# Altium integrated library Altium_WCAP-CSGP (rev21d).IntLib: 945 symbols (part 1 of 17)
Pins are listed as number, name and electrical type; pins without a type are passive.

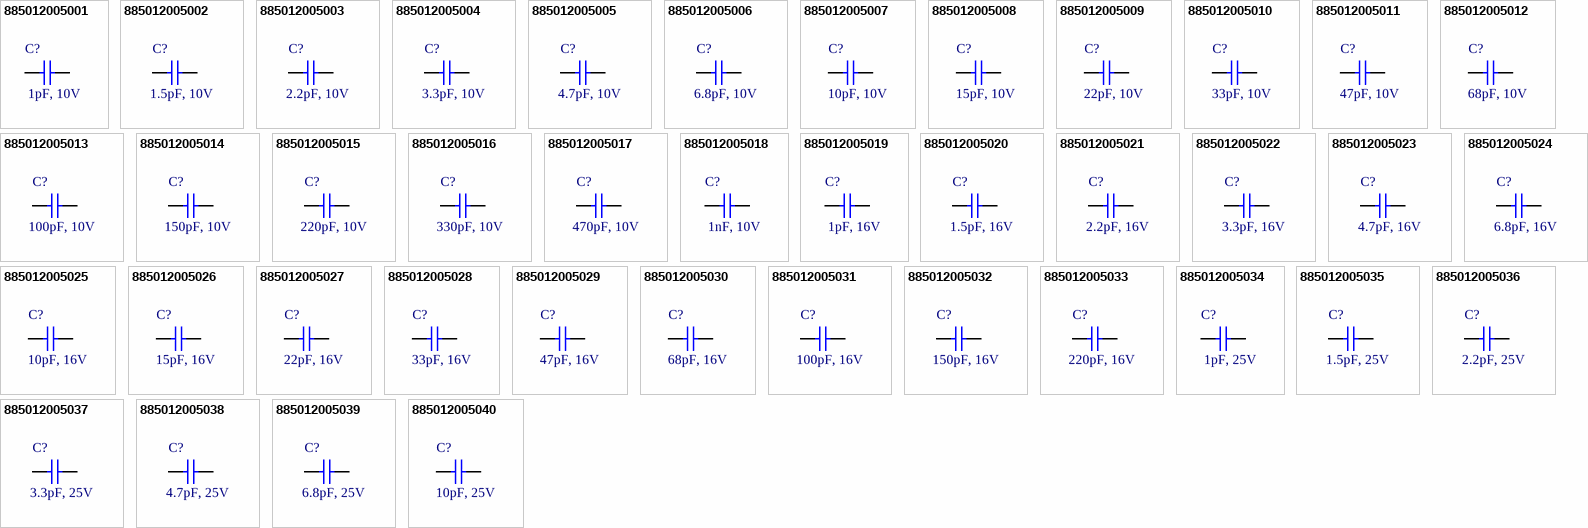
[diagram p0: symbols 885012005001 to 885012005040]

## 885012005001
designator C?, comment 1pF, 10V
WCAP-CSGP Multilayer Ceramic Chip Capacitor, General Purpose, size 0402, NP0, 1pF, 10V; Manufacturer Part Number: 885012005001; Manufacturer: Wurth Elektronik; Rated Voltage: 10VDC; Isolation Resistance  min.: 10GOhm; Capacitance Tolerance: +/-0.5pF; Technical Reference: NP004021R0D010DFCT10000; Q-Factor min.: 400+20C; ComponentLink1Description: Manufacturer; ComponentLink1URL: http://www.we-online.de; ComponentLink2Description: Datasheet; ComponentLink2URL: https://www.we-online.com/catalog/datasheet/885012005001.pdf; Operating Temperature: -55 to +125degC; Packaging: Tape and Reel; Published Date: April 2021; Ceramic Type: NP0; Dissipation Factor max.: -; Height: 0.5mm; Mounting Technology: SMT; Size: 0402; Capacitance: 1pF
footprint WCAP-CSGP_0402_H=0.5mm
pins: 1, 2

## 885012005002
designator C?, comment 1.5pF, 10V
WCAP-CSGP Multilayer Ceramic Chip Capacitor, General Purpose, size 0402, NP0, 1.5pF, 10V; Manufacturer Part Number: 885012005002; Manufacturer: Wurth Elektronik; Rated Voltage: 10VDC; Isolation Resistance  min.: 10GOhm; Capacitance Tolerance: +/-0.5pF; Technical Reference: NP004021R5D010DFCT10000; Q-Factor min.: 400+20C; ComponentLink1Description: Manufacturer; ComponentLink1URL: http://www.we-online.de; ComponentLink2Description: Datasheet; ComponentLink2URL: https://www.we-online.com/catalog/datasheet/885012005002.pdf; Operating Temperature: -55 to +125degC; Packaging: Tape and Reel; Published Date: April 2021; Ceramic Type: NP0; Dissipation Factor max.: -; Height: 0.5mm; Mounting Technology: SMT; Size: 0402; Capacitance: 1.5pF
footprint WCAP-CSGP_0402_H=0.5mm
pins: 1, 2

## 885012005003
designator C?, comment 2.2pF, 10V
WCAP-CSGP Multilayer Ceramic Chip Capacitor, General Purpose, size 0402, NP0, 2.2pF, 10V; Manufacturer Part Number: 885012005003; Manufacturer: Wurth Elektronik; Rated Voltage: 10VDC; Isolation Resistance  min.: 10GOhm; Capacitance Tolerance: +/-0.5pF; Technical Reference: NP004022R2D010DFCT10000; Q-Factor min.: 400+20C; ComponentLink1Description: Manufacturer; ComponentLink1URL: http://www.we-online.de; ComponentLink2Description: Datasheet; ComponentLink2URL: https://www.we-online.com/catalog/datasheet/885012005003.pdf; Operating Temperature: -55 to +125degC; Packaging: Tape and Reel; Published Date: April 2021; Ceramic Type: NP0; Dissipation Factor max.: -; Height: 0.5mm; Mounting Technology: SMT; Size: 0402; Capacitance: 2.2pF
footprint WCAP-CSGP_0402_H=0.5mm
pins: 1, 2

## 885012005004
designator C?, comment 3.3pF, 10V
WCAP-CSGP Multilayer Ceramic Chip Capacitor, General Purpose, size 0402, NP0, 3.3pF, 10V; Manufacturer Part Number: 885012005004; Manufacturer: Wurth Elektronik; Rated Voltage: 10VDC; Isolation Resistance  min.: 10GOhm; Capacitance Tolerance: +/-0.5pF; Technical Reference: NP004023R3D010DFCT10000; Q-Factor min.: 400+20C; ComponentLink1Description: Manufacturer; ComponentLink1URL: http://www.we-online.de; ComponentLink2Description: Datasheet; ComponentLink2URL: https://www.we-online.com/catalog/datasheet/885012005004.pdf; Operating Temperature: -55 to +125degC; Packaging: Tape and Reel; Published Date: April 2021; Ceramic Type: NP0; Dissipation Factor max.: -; Height: 0.5mm; Mounting Technology: SMT; Size: 0402; Capacitance: 3.3pF
footprint WCAP-CSGP_0402_H=0.5mm
pins: 1, 2

## 885012005005
designator C?, comment 4.7pF, 10V
WCAP-CSGP Multilayer Ceramic Chip Capacitor, General Purpose, size 0402, NP0, 4.7pF, 10V; Manufacturer Part Number: 885012005005; Manufacturer: Wurth Elektronik; Rated Voltage: 10VDC; Isolation Resistance  min.: 10GOhm; Capacitance Tolerance: +/-0.5pF; Technical Reference: NP004024R7D010DFCT10000; Q-Factor min.: 400+20C; ComponentLink1Description: Manufacturer; ComponentLink1URL: http://www.we-online.de; ComponentLink2Description: Datasheet; ComponentLink2URL: https://www.we-online.com/catalog/datasheet/885012005005.pdf; Operating Temperature: -55 to +125degC; Packaging: Tape and Reel; Published Date: April 2021; Ceramic Type: NP0; Dissipation Factor max.: -; Height: 0.5mm; Mounting Technology: SMT; Size: 0402; Capacitance: 4.7pF
footprint WCAP-CSGP_0402_H=0.5mm
pins: 1, 2

## 885012005006
designator C?, comment 6.8pF, 10V
WCAP-CSGP Multilayer Ceramic Chip Capacitor, General Purpose, size 0402, NP0, 6.8pF, 10V; Manufacturer Part Number: 885012005006; Manufacturer: Wurth Elektronik; Rated Voltage: 10VDC; Isolation Resistance  min.: 10GOhm; Capacitance Tolerance: +/-0.5pF; Technical Reference: NP004026R8D010DFCT10000; Q-Factor min.: 400+20C; ComponentLink1Description: Manufacturer; ComponentLink1URL: http://www.we-online.de; ComponentLink2Description: Datasheet; ComponentLink2URL: https://www.we-online.com/catalog/datasheet/885012005006.pdf; Operating Temperature: -55 to +125degC; Packaging: Tape and Reel; Published Date: April 2021; Ceramic Type: NP0; Dissipation Factor max.: -; Height: 0.5mm; Mounting Technology: SMT; Size: 0402; Capacitance: 6.8pF
footprint WCAP-CSGP_0402_H=0.5mm
pins: 1, 2

## 885012005007
designator C?, comment 10pF, 10V
WCAP-CSGP Multilayer Ceramic Chip Capacitor, General Purpose, size 0402, NP0, 10pF, 10V; Manufacturer Part Number: 885012005007; Manufacturer: Wurth Elektronik; Rated Voltage: 10VDC; Isolation Resistance  min.: 10GOhm; Capacitance Tolerance: +/-5%; Technical Reference: NP00402100J010DFCT10000; Q-Factor min.: 400+20C; ComponentLink1Description: Manufacturer; ComponentLink1URL: http://www.we-online.de; ComponentLink2Description: Datasheet; ComponentLink2URL: https://www.we-online.com/catalog/datasheet/885012005007.pdf; Operating Temperature: -55 to +125degC; Packaging: Tape and Reel; Published Date: April 2021; Ceramic Type: NP0; Dissipation Factor max.: -; Height: 0.5mm; Mounting Technology: SMT; Size: 0402; Capacitance: 10pF
footprint WCAP-CSGP_0402_H=0.5mm
pins: 1, 2

## 885012005008
designator C?, comment 15pF, 10V
WCAP-CSGP Multilayer Ceramic Chip Capacitor, General Purpose, size 0402, NP0, 15pF, 10V; Manufacturer Part Number: 885012005008; Manufacturer: Wurth Elektronik; Rated Voltage: 10VDC; Isolation Resistance  min.: 10GOhm; Capacitance Tolerance: +/-5%; Technical Reference: NP00402150J010DFCT10000; Q-Factor min.: 400+20C; ComponentLink1Description: Manufacturer; ComponentLink1URL: http://www.we-online.de; ComponentLink2Description: Datasheet; ComponentLink2URL: https://www.we-online.com/catalog/datasheet/885012005008.pdf; Operating Temperature: -55 to +125degC; Packaging: Tape and Reel; Published Date: April 2021; Ceramic Type: NP0; Dissipation Factor max.: -; Height: 0.5mm; Mounting Technology: SMT; Size: 0402; Capacitance: 15pF
footprint WCAP-CSGP_0402_H=0.5mm
pins: 1, 2

## 885012005009
designator C?, comment 22pF, 10V
WCAP-CSGP Multilayer Ceramic Chip Capacitor, General Purpose, size 0402, NP0, 22pF, 10V; Manufacturer Part Number: 885012005009; Manufacturer: Wurth Elektronik; Rated Voltage: 10VDC; Isolation Resistance  min.: 10GOhm; Capacitance Tolerance: +/-5%; Technical Reference: NP00402220J010DFCT10000; Q-Factor min.: 400+20C; ComponentLink1Description: Manufacturer; ComponentLink1URL: http://www.we-online.de; ComponentLink2Description: Datasheet; ComponentLink2URL: https://www.we-online.com/catalog/datasheet/885012005009.pdf; Operating Temperature: -55 to +125degC; Packaging: Tape and Reel; Published Date: April 2021; Ceramic Type: NP0; Dissipation Factor max.: -; Height: 0.5mm; Mounting Technology: SMT; Size: 0402; Capacitance: 22pF
footprint WCAP-CSGP_0402_H=0.5mm
pins: 1, 2

## 885012005010
designator C?, comment 33pF, 10V
WCAP-CSGP Multilayer Ceramic Chip Capacitor, General Purpose, size 0402, NP0, 33pF, 10V; Manufacturer Part Number: 885012005010; Manufacturer: Wurth Elektronik; Rated Voltage: 10VDC; Isolation Resistance  min.: 10GOhm; Capacitance Tolerance: +/-5%; Technical Reference: NP00402330J010DFCT10000; Q-Factor min.: 1000; ComponentLink1Description: Manufacturer; ComponentLink1URL: http://www.we-online.de; ComponentLink2Description: Datasheet; ComponentLink2URL: https://www.we-online.com/catalog/datasheet/885012005010.pdf; Operating Temperature: -55 to +125degC; Packaging: Tape and Reel; Published Date: April 2021; Ceramic Type: NP0; Dissipation Factor max.: -; Height: 0.5mm; Mounting Technology: SMT; Size: 0402; Capacitance: 33pF
footprint WCAP-CSGP_0402_H=0.5mm
pins: 1, 2

## 885012005011
designator C?, comment 47pF, 10V
WCAP-CSGP Multilayer Ceramic Chip Capacitor, General Purpose, size 0402, NP0, 47pF, 10V; Manufacturer Part Number: 885012005011; Manufacturer: Wurth Elektronik; Rated Voltage: 10VDC; Isolation Resistance  min.: 10GOhm; Capacitance Tolerance: +/-5%; Technical Reference: NP00402470J010DFCT10000; Q-Factor min.: 1000; ComponentLink1Description: Manufacturer; ComponentLink1URL: http://www.we-online.de; ComponentLink2Description: Datasheet; ComponentLink2URL: https://www.we-online.com/catalog/datasheet/885012005011.pdf; Operating Temperature: -55 to +125degC; Packaging: Tape and Reel; Published Date: April 2021; Ceramic Type: NP0; Dissipation Factor max.: -; Height: 0.5mm; Mounting Technology: SMT; Size: 0402; Capacitance: 47pF
footprint WCAP-CSGP_0402_H=0.5mm
pins: 1, 2

## 885012005012
designator C?, comment 68pF, 10V
WCAP-CSGP Multilayer Ceramic Chip Capacitor, General Purpose, size 0402, NP0, 68pF, 10V; Manufacturer Part Number: 885012005012; Manufacturer: Wurth Elektronik; Rated Voltage: 10VDC; Isolation Resistance  min.: 10GOhm; Capacitance Tolerance: +/-5%; Technical Reference: NP00402680J010DFCT10000; Q-Factor min.: 1000; ComponentLink1Description: Manufacturer; ComponentLink1URL: http://www.we-online.de; ComponentLink2Description: Datasheet; ComponentLink2URL: https://www.we-online.com/catalog/datasheet/885012005012.pdf; Operating Temperature: -55 to +125degC; Packaging: Tape and Reel; Published Date: April 2021; Ceramic Type: NP0; Dissipation Factor max.: -; Height: 0.5mm; Mounting Technology: SMT; Size: 0402; Capacitance: 68pF
footprint WCAP-CSGP_0402_H=0.5mm
pins: 1, 2

## 885012005013
designator C?, comment 100pF, 10V
WCAP-CSGP Multilayer Ceramic Chip Capacitor, General Purpose, size 0402, NP0, 100pF, 10V; Manufacturer Part Number: 885012005013; Manufacturer: Wurth Elektronik; Rated Voltage: 10VDC; Isolation Resistance  min.: 10GOhm; Capacitance Tolerance: +/-5%; Technical Reference: NP00402101J010DFCT10000; Q-Factor min.: 1000; ComponentLink1Description: Manufacturer; ComponentLink1URL: http://www.we-online.de; ComponentLink2Description: Datasheet; ComponentLink2URL: https://www.we-online.com/catalog/datasheet/885012005013.pdf; Operating Temperature: -55 to +125degC; Packaging: Tape and Reel; Published Date: April 2021; Ceramic Type: NP0; Dissipation Factor max.: -; Height: 0.5mm; Mounting Technology: SMT; Size: 0402; Capacitance: 100pF
footprint WCAP-CSGP_0402_H=0.5mm
pins: 1, 2

## 885012005014
designator C?, comment 150pF, 10V
WCAP-CSGP Multilayer Ceramic Chip Capacitor, General Purpose, size 0402, NP0, 150pF, 10V; Manufacturer Part Number: 885012005014; Manufacturer: Wurth Elektronik; Rated Voltage: 10VDC; Isolation Resistance  min.: 10GOhm; Capacitance Tolerance: +/-5%; Technical Reference: NP00402151J010DFCT10000; Q-Factor min.: 1000; ComponentLink1Description: Manufacturer; ComponentLink1URL: http://www.we-online.de; ComponentLink2Description: Datasheet; ComponentLink2URL: https://www.we-online.com/catalog/datasheet/885012005014.pdf; Operating Temperature: -55 to +125degC; Packaging: Tape and Reel; Published Date: April 2021; Ceramic Type: NP0; Dissipation Factor max.: -; Height: 0.5mm; Mounting Technology: SMT; Size: 0402; Capacitance: 150pF
footprint WCAP-CSGP_0402_H=0.5mm
pins: 1, 2

## 885012005015
designator C?, comment 220pF, 10V
WCAP-CSGP Multilayer Ceramic Chip Capacitor, General Purpose, size 0402, NP0, 220pF, 10V; Manufacturer Part Number: 885012005015; Manufacturer: Wurth Elektronik; Rated Voltage: 10VDC; Isolation Resistance  min.: 10GOhm; Capacitance Tolerance: +/-5%; Technical Reference: NP00402221J010DFCT10000; Q-Factor min.: 1000; ComponentLink1Description: Manufacturer; ComponentLink1URL: http://www.we-online.de; ComponentLink2Description: Datasheet; ComponentLink2URL: https://www.we-online.com/catalog/datasheet/885012005015.pdf; Operating Temperature: -55 to +125degC; Packaging: Tape and Reel; Published Date: April 2021; Ceramic Type: NP0; Dissipation Factor max.: -; Height: 0.5mm; Mounting Technology: SMT; Size: 0402; Capacitance: 220pF
footprint WCAP-CSGP_0402_H=0.5mm
pins: 1, 2

## 885012005016
designator C?, comment 330pF, 10V
WCAP-CSGP Multilayer Ceramic Chip Capacitor, General Purpose, size 0402, NP0, 330pF, 10V; Manufacturer Part Number: 885012005016; Manufacturer: Wurth Elektronik; Rated Voltage: 10VDC; Isolation Resistance  min.: 10GOhm; Capacitance Tolerance: +/-5%; Technical Reference: NP00402331J010DFCT10000; Q-Factor min.: 1000; ComponentLink1Description: Manufacturer; ComponentLink1URL: http://www.we-online.de; ComponentLink2Description: Datasheet; ComponentLink2URL: https://www.we-online.com/catalog/datasheet/885012005016.pdf; Operating Temperature: -55 to +125degC; Packaging: Tape and Reel; Published Date: April 2021; Ceramic Type: NP0; Dissipation Factor max.: -; Height: 0.5mm; Mounting Technology: SMT; Size: 0402; Capacitance: 330pF
footprint WCAP-CSGP_0402_H=0.5mm
pins: 1, 2

## 885012005017
designator C?, comment 470pF, 10V
WCAP-CSGP Multilayer Ceramic Chip Capacitor, General Purpose, size 0402, NP0, 470pF, 10V; Manufacturer Part Number: 885012005017; Manufacturer: Wurth Elektronik; Rated Voltage: 10VDC; Isolation Resistance  min.: 10GOhm; Capacitance Tolerance: +/-5%; Technical Reference: NP00402471J010DFCT10000; Q-Factor min.: 1000; ComponentLink1Description: Manufacturer; ComponentLink1URL: http://www.we-online.de; ComponentLink2Description: Datasheet; ComponentLink2URL: https://www.we-online.com/catalog/datasheet/885012005017.pdf; Operating Temperature: -55 to +125degC; Packaging: Tape and Reel; Published Date: April 2021; Ceramic Type: NP0; Dissipation Factor max.: -; Height: 0.5mm; Mounting Technology: SMT; Size: 0402; Capacitance: 470pF
footprint WCAP-CSGP_0402_H=0.5mm
pins: 1, 2

## 885012005018
designator C?, comment 1nF, 10V
WCAP-CSGP Multilayer Ceramic Chip Capacitor, General Purpose, size 0402, NP0, 1nF, 10V; Manufacturer Part Number: 885012005018; Manufacturer: Wurth Elektronik; Rated Voltage: 10VDC; Isolation Resistance  min.: 10GOhm; Capacitance Tolerance: +/-5%; Technical Reference: NP00402102J010DFCT10000; Q-Factor min.: 1000; ComponentLink1Description: Manufacturer; ComponentLink1URL: http://www.we-online.de; ComponentLink2Description: Datasheet; ComponentLink2URL: https://www.we-online.com/catalog/datasheet/885012005018.pdf; Operating Temperature: -55 to +125degC; Packaging: Tape and Reel; Published Date: April 2021; Ceramic Type: NP0; Dissipation Factor max.: -; Height: 0.5mm; Mounting Technology: SMT; Size: 0402; Capacitance: 1nF
footprint WCAP-CSGP_0402_H=0.5mm
pins: 1, 2

## 885012005019
designator C?, comment 1pF, 16V
WCAP-CSGP Multilayer Ceramic Chip Capacitor, General Purpose, size 0402, NP0, 1pF, 16V; Manufacturer Part Number: 885012005019; Manufacturer: Wurth Elektronik; Rated Voltage: 16VDC; Isolation Resistance  min.: 10GOhm; Capacitance Tolerance: +/-0.5pF; Technical Reference: NP004021R0D016DFCT10000; Q-Factor min.: 400+20C; ComponentLink1Description: Manufacturer; ComponentLink1URL: http://www.we-online.de; ComponentLink2Description: Datasheet; ComponentLink2URL: https://www.we-online.com/catalog/datasheet/885012005019.pdf; Operating Temperature: -55 to +125degC; Packaging: Tape and Reel; Published Date: April 2021; Ceramic Type: NP0; Dissipation Factor max.: -; Height: 0.5mm; Mounting Technology: SMT; Size: 0402; Capacitance: 1pF
footprint WCAP-CSGP_0402_H=0.5mm
pins: 1, 2

## 885012005020
designator C?, comment 1.5pF, 16V
WCAP-CSGP Multilayer Ceramic Chip Capacitor, General Purpose, size 0402, NP0, 1.5pF, 16V; Manufacturer Part Number: 885012005020; Manufacturer: Wurth Elektronik; Rated Voltage: 16VDC; Isolation Resistance  min.: 10GOhm; Capacitance Tolerance: +/-0.5pF; Technical Reference: NP004021R5D016DFCT10000; Q-Factor min.: 400+20C; ComponentLink1Description: Manufacturer; ComponentLink1URL: http://www.we-online.de; ComponentLink2Description: Datasheet; ComponentLink2URL: https://www.we-online.com/catalog/datasheet/885012005020.pdf; Operating Temperature: -55 to +125degC; Packaging: Tape and Reel; Published Date: April 2021; Ceramic Type: NP0; Dissipation Factor max.: -; Height: 0.5mm; Mounting Technology: SMT; Size: 0402; Capacitance: 1.5pF
footprint WCAP-CSGP_0402_H=0.5mm
pins: 1, 2

## 885012005021
designator C?, comment 2.2pF, 16V
WCAP-CSGP Multilayer Ceramic Chip Capacitor, General Purpose, size 0402, NP0, 2.2pF, 16V; Manufacturer Part Number: 885012005021; Manufacturer: Wurth Elektronik; Rated Voltage: 16VDC; Isolation Resistance  min.: 10GOhm; Capacitance Tolerance: +/-0.5pF; Technical Reference: NP004022R2D016DFCT10000; Q-Factor min.: 400+20C; ComponentLink1Description: Manufacturer; ComponentLink1URL: http://www.we-online.de; ComponentLink2Description: Datasheet; ComponentLink2URL: https://www.we-online.com/catalog/datasheet/885012005021.pdf; Operating Temperature: -55 to +125degC; Packaging: Tape and Reel; Published Date: April 2021; Ceramic Type: NP0; Dissipation Factor max.: -; Height: 0.5mm; Mounting Technology: SMT; Size: 0402; Capacitance: 2.2pF
footprint WCAP-CSGP_0402_H=0.5mm
pins: 1, 2

## 885012005022
designator C?, comment 3.3pF, 16V
WCAP-CSGP Multilayer Ceramic Chip Capacitor, General Purpose, size 0402, NP0, 3.3pF, 16V; Manufacturer Part Number: 885012005022; Manufacturer: Wurth Elektronik; Rated Voltage: 16VDC; Isolation Resistance  min.: 10GOhm; Capacitance Tolerance: +/-0.5pF; Technical Reference: NP004023R3D016DFCT10000; Q-Factor min.: 400+20C; ComponentLink1Description: Manufacturer; ComponentLink1URL: http://www.we-online.de; ComponentLink2Description: Datasheet; ComponentLink2URL: https://www.we-online.com/catalog/datasheet/885012005022.pdf; Operating Temperature: -55 to +125degC; Packaging: Tape and Reel; Published Date: April 2021; Ceramic Type: NP0; Dissipation Factor max.: -; Height: 0.5mm; Mounting Technology: SMT; Size: 0402; Capacitance: 3.3pF
footprint WCAP-CSGP_0402_H=0.5mm
pins: 1, 2

## 885012005023
designator C?, comment 4.7pF, 16V
WCAP-CSGP Multilayer Ceramic Chip Capacitor, General Purpose, size 0402, NP0, 4.7pF, 16V; Manufacturer Part Number: 885012005023; Manufacturer: Wurth Elektronik; Rated Voltage: 16VDC; Isolation Resistance  min.: 10GOhm; Capacitance Tolerance: +/-0.5pF; Technical Reference: NP004024R7D016DFCT10000; Q-Factor min.: 400+20C; ComponentLink1Description: Manufacturer; ComponentLink1URL: http://www.we-online.de; ComponentLink2Description: Datasheet; ComponentLink2URL: https://www.we-online.com/catalog/datasheet/885012005023.pdf; Operating Temperature: -55 to +125degC; Packaging: Tape and Reel; Published Date: April 2021; Ceramic Type: NP0; Dissipation Factor max.: -; Height: 0.5mm; Mounting Technology: SMT; Size: 0402; Capacitance: 4.7pF
footprint WCAP-CSGP_0402_H=0.5mm
pins: 1, 2

## 885012005024
designator C?, comment 6.8pF, 16V
WCAP-CSGP Multilayer Ceramic Chip Capacitor, General Purpose, size 0402, NP0, 6.8pF, 16V; Manufacturer Part Number: 885012005024; Manufacturer: Wurth Elektronik; Rated Voltage: 16VDC; Isolation Resistance  min.: 10GOhm; Capacitance Tolerance: +/-0.5pF; Technical Reference: NP004026R8D016DFCT10000; Q-Factor min.: 400+20C; ComponentLink1Description: Manufacturer; ComponentLink1URL: http://www.we-online.de; ComponentLink2Description: Datasheet; ComponentLink2URL: https://www.we-online.com/catalog/datasheet/885012005024.pdf; Operating Temperature: -55 to +125degC; Packaging: Tape and Reel; Published Date: April 2021; Ceramic Type: NP0; Dissipation Factor max.: -; Height: 0.5mm; Mounting Technology: SMT; Size: 0402; Capacitance: 6.8pF
footprint WCAP-CSGP_0402_H=0.5mm
pins: 1, 2

## 885012005025
designator C?, comment 10pF, 16V
WCAP-CSGP Multilayer Ceramic Chip Capacitor, General Purpose, size 0402, NP0, 10pF, 16V; Manufacturer Part Number: 885012005025; Manufacturer: Wurth Elektronik; Rated Voltage: 16VDC; Isolation Resistance  min.: 10GOhm; Capacitance Tolerance: +/-5%; Technical Reference: NP00402100J016DFCT10000; Q-Factor min.: 400+20C; ComponentLink1Description: Manufacturer; ComponentLink1URL: http://www.we-online.de; ComponentLink2Description: Datasheet; ComponentLink2URL: https://www.we-online.com/catalog/datasheet/885012005025.pdf; Operating Temperature: -55 to +125degC; Packaging: Tape and Reel; Published Date: April 2021; Ceramic Type: NP0; Dissipation Factor max.: -; Height: 0.5mm; Mounting Technology: SMT; Size: 0402; Capacitance: 10pF
footprint WCAP-CSGP_0402_H=0.5mm
pins: 1, 2

## 885012005026
designator C?, comment 15pF, 16V
WCAP-CSGP Multilayer Ceramic Chip Capacitor, General Purpose, size 0402, NP0, 15pF, 16V; Manufacturer Part Number: 885012005026; Manufacturer: Wurth Elektronik; Rated Voltage: 16VDC; Isolation Resistance  min.: 10GOhm; Capacitance Tolerance: +/-5%; Technical Reference: NP00402150J016DFCT10000; Q-Factor min.: 400+20C; ComponentLink1Description: Manufacturer; ComponentLink1URL: http://www.we-online.de; ComponentLink2Description: Datasheet; ComponentLink2URL: https://www.we-online.com/catalog/datasheet/885012005026.pdf; Operating Temperature: -55 to +125degC; Packaging: Tape and Reel; Published Date: April 2021; Ceramic Type: NP0; Dissipation Factor max.: -; Height: 0.5mm; Mounting Technology: SMT; Size: 0402; Capacitance: 15pF
footprint WCAP-CSGP_0402_H=0.5mm
pins: 1, 2

## 885012005027
designator C?, comment 22pF, 16V
WCAP-CSGP Multilayer Ceramic Chip Capacitor, General Purpose, size 0402, NP0, 22pF, 16V; Manufacturer Part Number: 885012005027; Manufacturer: Wurth Elektronik; Rated Voltage: 16VDC; Isolation Resistance  min.: 10GOhm; Capacitance Tolerance: +/-5%; Technical Reference: NP00402220J016DFCT10000; Q-Factor min.: 400+20C; ComponentLink1Description: Manufacturer; ComponentLink1URL: http://www.we-online.de; ComponentLink2Description: Datasheet; ComponentLink2URL: https://www.we-online.com/catalog/datasheet/885012005027.pdf; Operating Temperature: -55 to +125degC; Packaging: Tape and Reel; Published Date: April 2021; Ceramic Type: NP0; Dissipation Factor max.: -; Height: 0.5mm; Mounting Technology: SMT; Size: 0402; Capacitance: 22pF
footprint WCAP-CSGP_0402_H=0.5mm
pins: 1, 2

## 885012005028
designator C?, comment 33pF, 16V
WCAP-CSGP Multilayer Ceramic Chip Capacitor, General Purpose, size 0402, NP0, 33pF, 16V; Manufacturer Part Number: 885012005028; Manufacturer: Wurth Elektronik; Rated Voltage: 16VDC; Isolation Resistance  min.: 10GOhm; Capacitance Tolerance: +/-5%; Technical Reference: NP00402330J016DFCT10000; Q-Factor min.: 1000; ComponentLink1Description: Manufacturer; ComponentLink1URL: http://www.we-online.de; ComponentLink2Description: Datasheet; ComponentLink2URL: https://www.we-online.com/catalog/datasheet/885012005028.pdf; Operating Temperature: -55 to +125degC; Packaging: Tape and Reel; Published Date: April 2021; Ceramic Type: NP0; Dissipation Factor max.: -; Height: 0.5mm; Mounting Technology: SMT; Size: 0402; Capacitance: 33pF
footprint WCAP-CSGP_0402_H=0.5mm
pins: 1, 2

## 885012005029
designator C?, comment 47pF, 16V
WCAP-CSGP Multilayer Ceramic Chip Capacitor, General Purpose, size 0402, NP0, 47pF, 16V; Manufacturer Part Number: 885012005029; Manufacturer: Wurth Elektronik; Rated Voltage: 16VDC; Isolation Resistance  min.: 10GOhm; Capacitance Tolerance: +/-5%; Technical Reference: NP00402470J016DFCT10000; Q-Factor min.: 1000; ComponentLink1Description: Manufacturer; ComponentLink1URL: http://www.we-online.de; ComponentLink2Description: Datasheet; ComponentLink2URL: https://www.we-online.com/catalog/datasheet/885012005029.pdf; Operating Temperature: -55 to +125degC; Packaging: Tape and Reel; Published Date: April 2021; Ceramic Type: NP0; Dissipation Factor max.: -; Height: 0.5mm; Mounting Technology: SMT; Size: 0402; Capacitance: 47pF
footprint WCAP-CSGP_0402_H=0.5mm
pins: 1, 2

## 885012005030
designator C?, comment 68pF, 16V
WCAP-CSGP Multilayer Ceramic Chip Capacitor, General Purpose, size 0402, NP0, 68pF, 16V; Manufacturer Part Number: 885012005030; Manufacturer: Wurth Elektronik; Rated Voltage: 16VDC; Isolation Resistance  min.: 10GOhm; Capacitance Tolerance: +/-5%; Technical Reference: NP00402680J016DFCT10000; Q-Factor min.: 1000; ComponentLink1Description: Manufacturer; ComponentLink1URL: http://www.we-online.de; ComponentLink2Description: Datasheet; ComponentLink2URL: https://www.we-online.com/catalog/datasheet/885012005030.pdf; Operating Temperature: -55 to +125degC; Packaging: Tape and Reel; Published Date: April 2021; Ceramic Type: NP0; Dissipation Factor max.: -; Height: 0.5mm; Mounting Technology: SMT; Size: 0402; Capacitance: 68pF
footprint WCAP-CSGP_0402_H=0.5mm
pins: 1, 2

## 885012005031
designator C?, comment 100pF, 16V
WCAP-CSGP Multilayer Ceramic Chip Capacitor, General Purpose, size 0402, NP0, 100pF, 16V; Manufacturer Part Number: 885012005031; Manufacturer: Wurth Elektronik; Rated Voltage: 16VDC; Isolation Resistance  min.: 10GOhm; Capacitance Tolerance: +/-5%; Technical Reference: NP00402101J016DFCT10000; Q-Factor min.: 1000; ComponentLink1Description: Manufacturer; ComponentLink1URL: http://www.we-online.de; ComponentLink2Description: Datasheet; ComponentLink2URL: https://www.we-online.com/catalog/datasheet/885012005031.pdf; Operating Temperature: -55 to +125degC; Packaging: Tape and Reel; Published Date: April 2021; Ceramic Type: NP0; Dissipation Factor max.: -; Height: 0.5mm; Mounting Technology: SMT; Size: 0402; Capacitance: 100pF
footprint WCAP-CSGP_0402_H=0.5mm
pins: 1, 2

## 885012005032
designator C?, comment 150pF, 16V
WCAP-CSGP Multilayer Ceramic Chip Capacitor, General Purpose, size 0402, NP0, 150pF, 16V; Manufacturer Part Number: 885012005032; Manufacturer: Wurth Elektronik; Rated Voltage: 16VDC; Isolation Resistance  min.: 10GOhm; Capacitance Tolerance: +/-5%; Technical Reference: NP00402151J016DFCT10000; Q-Factor min.: 1000; ComponentLink1Description: Manufacturer; ComponentLink1URL: http://www.we-online.de; ComponentLink2Description: Datasheet; ComponentLink2URL: https://www.we-online.com/catalog/datasheet/885012005032.pdf; Operating Temperature: -55 to +125degC; Packaging: Tape and Reel; Published Date: April 2021; Ceramic Type: NP0; Dissipation Factor max.: -; Height: 0.5mm; Mounting Technology: SMT; Size: 0402; Capacitance: 150pF
footprint WCAP-CSGP_0402_H=0.5mm
pins: 1, 2

## 885012005033
designator C?, comment 220pF, 16V
WCAP-CSGP Multilayer Ceramic Chip Capacitor, General Purpose, size 0402, NP0, 220pF, 16V; Manufacturer Part Number: 885012005033; Manufacturer: Wurth Elektronik; Rated Voltage: 16VDC; Isolation Resistance  min.: 10GOhm; Capacitance Tolerance: +/-5%; Technical Reference: NP00402221J016DFCT10000; Q-Factor min.: 1000; ComponentLink1Description: Manufacturer; ComponentLink1URL: http://www.we-online.de; ComponentLink2Description: Datasheet; ComponentLink2URL: https://www.we-online.com/catalog/datasheet/885012005033.pdf; Operating Temperature: -55 to +125degC; Packaging: Tape and Reel; Published Date: April 2021; Ceramic Type: NP0; Dissipation Factor max.: -; Height: 0.5mm; Mounting Technology: SMT; Size: 0402; Capacitance: 220pF
footprint WCAP-CSGP_0402_H=0.5mm
pins: 1, 2

## 885012005034
designator C?, comment 1pF, 25V
WCAP-CSGP Multilayer Ceramic Chip Capacitor, General Purpose, size 0402, NP0, 1pF, 25V; Manufacturer Part Number: 885012005034; Manufacturer: Wurth Elektronik; Rated Voltage: 25VDC; Isolation Resistance  min.: 10GOhm; Capacitance Tolerance: +/-0.5pF; Technical Reference: NP004021R0D025DFCT10000; Q-Factor min.: 400+20C; ComponentLink1Description: Manufacturer; ComponentLink1URL: http://www.we-online.de; ComponentLink2Description: Datasheet; ComponentLink2URL: https://www.we-online.com/catalog/datasheet/885012005034.pdf; Operating Temperature: -55 to +125degC; Packaging: Tape and Reel; Published Date: April 2021; Ceramic Type: NP0; Dissipation Factor max.: -; Height: 0.5mm; Mounting Technology: SMT; Size: 0402; Capacitance: 1pF
footprint WCAP-CSGP_0402_H=0.5mm
pins: 1, 2

## 885012005035
designator C?, comment 1.5pF, 25V
WCAP-CSGP Multilayer Ceramic Chip Capacitor, General Purpose, size 0402, NP0, 1.5pF, 25V; Manufacturer Part Number: 885012005035; Manufacturer: Wurth Elektronik; Rated Voltage: 25VDC; Isolation Resistance  min.: 10GOhm; Capacitance Tolerance: +/-0.5pF; Technical Reference: NP004021R5D025DFCT10000; Q-Factor min.: 400+20C; ComponentLink1Description: Manufacturer; ComponentLink1URL: http://www.we-online.de; ComponentLink2Description: Datasheet; ComponentLink2URL: https://www.we-online.com/catalog/datasheet/885012005035.pdf; Operating Temperature: -55 to +125degC; Packaging: Tape and Reel; Published Date: April 2021; Ceramic Type: NP0; Dissipation Factor max.: -; Height: 0.5mm; Mounting Technology: SMT; Size: 0402; Capacitance: 1.5pF
footprint WCAP-CSGP_0402_H=0.5mm
pins: 1, 2

## 885012005036
designator C?, comment 2.2pF, 25V
WCAP-CSGP Multilayer Ceramic Chip Capacitor, General Purpose, size 0402, NP0, 2.2pF, 25V; Manufacturer Part Number: 885012005036; Manufacturer: Wurth Elektronik; Rated Voltage: 25VDC; Isolation Resistance  min.: 10GOhm; Capacitance Tolerance: +/-0.5pF; Technical Reference: NP004022R2D025DFCT10000; Q-Factor min.: 400+20C; ComponentLink1Description: Manufacturer; ComponentLink1URL: http://www.we-online.de; ComponentLink2Description: Datasheet; ComponentLink2URL: https://www.we-online.com/catalog/datasheet/885012005036.pdf; Operating Temperature: -55 to +125degC; Packaging: Tape and Reel; Published Date: April 2021; Ceramic Type: NP0; Dissipation Factor max.: -; Height: 0.5mm; Mounting Technology: SMT; Size: 0402; Capacitance: 2.2pF
footprint WCAP-CSGP_0402_H=0.5mm
pins: 1, 2

## 885012005037
designator C?, comment 3.3pF, 25V
WCAP-CSGP Multilayer Ceramic Chip Capacitor, General Purpose, size 0402, NP0, 3.3pF, 25V; Manufacturer Part Number: 885012005037; Manufacturer: Wurth Elektronik; Rated Voltage: 25VDC; Isolation Resistance  min.: 10GOhm; Capacitance Tolerance: +/-0.5pF; Technical Reference: NP004023R3D025DFCT10000; Q-Factor min.: 400+20C; ComponentLink1Description: Manufacturer; ComponentLink1URL: http://www.we-online.de; ComponentLink2Description: Datasheet; ComponentLink2URL: https://www.we-online.com/catalog/datasheet/885012005037.pdf; Operating Temperature: -55 to +125degC; Packaging: Tape and Reel; Published Date: April 2021; Ceramic Type: NP0; Dissipation Factor max.: -; Height: 0.5mm; Mounting Technology: SMT; Size: 0402; Capacitance: 3.3pF
footprint WCAP-CSGP_0402_H=0.5mm
pins: 1, 2

## 885012005038
designator C?, comment 4.7pF, 25V
WCAP-CSGP Multilayer Ceramic Chip Capacitor, General Purpose, size 0402, NP0, 4.7pF, 25V; Manufacturer Part Number: 885012005038; Manufacturer: Wurth Elektronik; Rated Voltage: 25VDC; Isolation Resistance  min.: 10GOhm; Capacitance Tolerance: +/-0.5pF; Technical Reference: NP004024R7D025DFCT10000; Q-Factor min.: 400+20C; ComponentLink1Description: Manufacturer; ComponentLink1URL: http://www.we-online.de; ComponentLink2Description: Datasheet; ComponentLink2URL: https://www.we-online.com/catalog/datasheet/885012005038.pdf; Operating Temperature: -55 to +125degC; Packaging: Tape and Reel; Published Date: April 2021; Ceramic Type: NP0; Dissipation Factor max.: -; Height: 0.5mm; Mounting Technology: SMT; Size: 0402; Capacitance: 4.7pF
footprint WCAP-CSGP_0402_H=0.5mm
pins: 1, 2

## 885012005039
designator C?, comment 6.8pF, 25V
WCAP-CSGP Multilayer Ceramic Chip Capacitor, General Purpose, size 0402, NP0, 6.8pF, 25V; Manufacturer Part Number: 885012005039; Manufacturer: Wurth Elektronik; Rated Voltage: 25VDC; Isolation Resistance  min.: 10GOhm; Capacitance Tolerance: +/-0.5pF; Technical Reference: NP004026R8D025DFCT10000; Q-Factor min.: 400+20C; ComponentLink1Description: Manufacturer; ComponentLink1URL: http://www.we-online.de; ComponentLink2Description: Datasheet; ComponentLink2URL: https://www.we-online.com/catalog/datasheet/885012005039.pdf; Operating Temperature: -55 to +125degC; Packaging: Tape and Reel; Published Date: April 2021; Ceramic Type: NP0; Dissipation Factor max.: -; Height: 0.5mm; Mounting Technology: SMT; Size: 0402; Capacitance: 6.8pF
footprint WCAP-CSGP_0402_H=0.5mm
pins: 1, 2

## 885012005040
designator C?, comment 10pF, 25V
WCAP-CSGP Multilayer Ceramic Chip Capacitor, General Purpose, size 0402, NP0, 10pF, 25V; Manufacturer Part Number: 885012005040; Manufacturer: Wurth Elektronik; Rated Voltage: 25VDC; Isolation Resistance  min.: 10GOhm; Capacitance Tolerance: +/-5%; Technical Reference: NP00402100J025DFCT10000; Q-Factor min.: 400+20C; ComponentLink1Description: Manufacturer; ComponentLink1URL: http://www.we-online.de; ComponentLink2Description: Datasheet; ComponentLink2URL: https://www.we-online.com/catalog/datasheet/885012005040.pdf; Operating Temperature: -55 to +125degC; Packaging: Tape and Reel; Published Date: April 2021; Ceramic Type: NP0; Dissipation Factor max.: -; Height: 0.5mm; Mounting Technology: SMT; Size: 0402; Capacitance: 10pF
footprint WCAP-CSGP_0402_H=0.5mm
pins: 1, 2

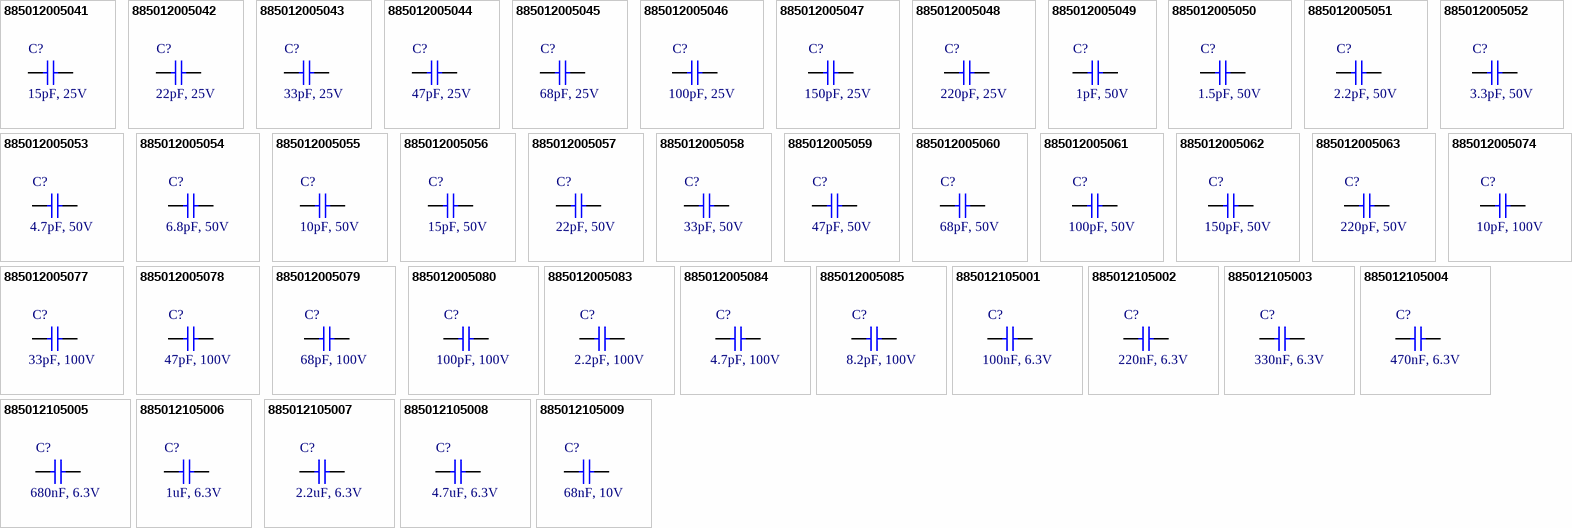
[diagram p1: symbols 885012005041 to 885012105009]

## 885012005041
designator C?, comment 15pF, 25V
WCAP-CSGP Multilayer Ceramic Chip Capacitor, General Purpose, size 0402, NP0, 15pF, 25V; Manufacturer Part Number: 885012005041; Manufacturer: Wurth Elektronik; Rated Voltage: 25VDC; Isolation Resistance  min.: 10GOhm; Capacitance Tolerance: +/-5%; Technical Reference: NP00402150J025DFCT10000; Q-Factor min.: 400+20C; ComponentLink1Description: Manufacturer; ComponentLink1URL: http://www.we-online.de; ComponentLink2Description: Datasheet; ComponentLink2URL: https://www.we-online.com/catalog/datasheet/885012005041.pdf; Operating Temperature: -55 to +125degC; Packaging: Tape and Reel; Published Date: April 2021; Ceramic Type: NP0; Dissipation Factor max.: -; Height: 0.5mm; Mounting Technology: SMT; Size: 0402; Capacitance: 15pF
footprint WCAP-CSGP_0402_H=0.5mm
pins: 1, 2

## 885012005042
designator C?, comment 22pF, 25V
WCAP-CSGP Multilayer Ceramic Chip Capacitor, General Purpose, size 0402, NP0, 22pF, 25V; Manufacturer Part Number: 885012005042; Manufacturer: Wurth Elektronik; Rated Voltage: 25VDC; Isolation Resistance  min.: 10GOhm; Capacitance Tolerance: +/-5%; Technical Reference: NP00402220J025DFCT10000; Q-Factor min.: 400+20C; ComponentLink1Description: Manufacturer; ComponentLink1URL: http://www.we-online.de; ComponentLink2Description: Datasheet; ComponentLink2URL: https://www.we-online.com/catalog/datasheet/885012005042.pdf; Operating Temperature: -55 to +125degC; Packaging: Tape and Reel; Published Date: April 2021; Ceramic Type: NP0; Dissipation Factor max.: -; Height: 0.5mm; Mounting Technology: SMT; Size: 0402; Capacitance: 22pF
footprint WCAP-CSGP_0402_H=0.5mm
pins: 1, 2

## 885012005043
designator C?, comment 33pF, 25V
WCAP-CSGP Multilayer Ceramic Chip Capacitor, General Purpose, size 0402, NP0, 33pF, 25V; Manufacturer Part Number: 885012005043; Manufacturer: Wurth Elektronik; Rated Voltage: 25VDC; Isolation Resistance  min.: 10GOhm; Capacitance Tolerance: +/-5%; Technical Reference: NP00402330J025DFCT10000; Q-Factor min.: 1000; ComponentLink1Description: Manufacturer; ComponentLink1URL: http://www.we-online.de; ComponentLink2Description: Datasheet; ComponentLink2URL: https://www.we-online.com/catalog/datasheet/885012005043.pdf; Operating Temperature: -55 to +125degC; Packaging: Tape and Reel; Published Date: April 2021; Ceramic Type: NP0; Dissipation Factor max.: -; Height: 0.5mm; Mounting Technology: SMT; Size: 0402; Capacitance: 33pF
footprint WCAP-CSGP_0402_H=0.5mm
pins: 1, 2

## 885012005044
designator C?, comment 47pF, 25V
WCAP-CSGP Multilayer Ceramic Chip Capacitor, General Purpose, size 0402, NP0, 47pF, 25V; Manufacturer Part Number: 885012005044; Manufacturer: Wurth Elektronik; Rated Voltage: 25VDC; Isolation Resistance  min.: 10GOhm; Capacitance Tolerance: +/-5%; Technical Reference: NP00402470J025DFCT10000; Q-Factor min.: 1000; ComponentLink1Description: Manufacturer; ComponentLink1URL: http://www.we-online.de; ComponentLink2Description: Datasheet; ComponentLink2URL: https://www.we-online.com/catalog/datasheet/885012005044.pdf; Operating Temperature: -55 to +125degC; Packaging: Tape and Reel; Published Date: April 2021; Ceramic Type: NP0; Dissipation Factor max.: -; Height: 0.5mm; Mounting Technology: SMT; Size: 0402; Capacitance: 47pF
footprint WCAP-CSGP_0402_H=0.5mm
pins: 1, 2

## 885012005045
designator C?, comment 68pF, 25V
WCAP-CSGP Multilayer Ceramic Chip Capacitor, General Purpose, size 0402, NP0, 68pF, 25V; Manufacturer Part Number: 885012005045; Manufacturer: Wurth Elektronik; Rated Voltage: 25VDC; Isolation Resistance  min.: 10GOhm; Capacitance Tolerance: +/-5%; Technical Reference: NP00402680J025DFCT10000; Q-Factor min.: 1000; ComponentLink1Description: Manufacturer; ComponentLink1URL: http://www.we-online.de; ComponentLink2Description: Datasheet; ComponentLink2URL: https://www.we-online.com/catalog/datasheet/885012005045.pdf; Operating Temperature: -55 to +125degC; Packaging: Tape and Reel; Published Date: April 2021; Ceramic Type: NP0; Dissipation Factor max.: -; Height: 0.5mm; Mounting Technology: SMT; Size: 0402; Capacitance: 68pF
footprint WCAP-CSGP_0402_H=0.5mm
pins: 1, 2

## 885012005046
designator C?, comment 100pF, 25V
WCAP-CSGP Multilayer Ceramic Chip Capacitor, General Purpose, size 0402, NP0, 100pF, 25V; Manufacturer Part Number: 885012005046; Manufacturer: Wurth Elektronik; Rated Voltage: 25VDC; Isolation Resistance  min.: 10GOhm; Capacitance Tolerance: +/-5%; Technical Reference: NP00402101J025DFCT10000; Q-Factor min.: 1000; ComponentLink1Description: Manufacturer; ComponentLink1URL: http://www.we-online.de; ComponentLink2Description: Datasheet; ComponentLink2URL: https://www.we-online.com/catalog/datasheet/885012005046.pdf; Operating Temperature: -55 to +125degC; Packaging: Tape and Reel; Published Date: April 2021; Ceramic Type: NP0; Dissipation Factor max.: -; Height: 0.5mm; Mounting Technology: SMT; Size: 0402; Capacitance: 100pF
footprint WCAP-CSGP_0402_H=0.5mm
pins: 1, 2

## 885012005047
designator C?, comment 150pF, 25V
WCAP-CSGP Multilayer Ceramic Chip Capacitor, General Purpose, size 0402, NP0, 150pF, 25V; Manufacturer Part Number: 885012005047; Manufacturer: Wurth Elektronik; Rated Voltage: 25VDC; Isolation Resistance  min.: 10GOhm; Capacitance Tolerance: +/-5%; Technical Reference: NP00402151J025DFCT10000; Q-Factor min.: 1000; ComponentLink1Description: Manufacturer; ComponentLink1URL: http://www.we-online.de; ComponentLink2Description: Datasheet; ComponentLink2URL: https://www.we-online.com/catalog/datasheet/885012005047.pdf; Operating Temperature: -55 to +125degC; Packaging: Tape and Reel; Published Date: April 2021; Ceramic Type: NP0; Dissipation Factor max.: -; Height: 0.5mm; Mounting Technology: SMT; Size: 0402; Capacitance: 150pF
footprint WCAP-CSGP_0402_H=0.5mm
pins: 1, 2

## 885012005048
designator C?, comment 220pF, 25V
WCAP-CSGP Multilayer Ceramic Chip Capacitor, General Purpose, size 0402, NP0, 220pF, 25V; Manufacturer Part Number: 885012005048; Manufacturer: Wurth Elektronik; Rated Voltage: 25VDC; Isolation Resistance  min.: 10GOhm; Capacitance Tolerance: +/-5%; Technical Reference: NP00402221J025DFCT10000; Q-Factor min.: 1000; ComponentLink1Description: Manufacturer; ComponentLink1URL: http://www.we-online.de; ComponentLink2Description: Datasheet; ComponentLink2URL: https://www.we-online.com/catalog/datasheet/885012005048.pdf; Operating Temperature: -55 to +125degC; Packaging: Tape and Reel; Published Date: April 2021; Ceramic Type: NP0; Dissipation Factor max.: -; Height: 0.5mm; Mounting Technology: SMT; Size: 0402; Capacitance: 220pF
footprint WCAP-CSGP_0402_H=0.5mm
pins: 1, 2

## 885012005049
designator C?, comment 1pF, 50V
WCAP-CSGP Multilayer Ceramic Chip Capacitor, General Purpose, size 0402, NP0, 1pF, 50V; Manufacturer Part Number: 885012005049; Manufacturer: Wurth Elektronik; Rated Voltage: 50VDC; Isolation Resistance  min.: 10GOhm; Capacitance Tolerance: +/-0.5pF; Technical Reference: NP004021R0D050DFCT10000; Q-Factor min.: 400+20C; ComponentLink1Description: Manufacturer; ComponentLink1URL: http://www.we-online.de; ComponentLink2Description: Datasheet; ComponentLink2URL: https://www.we-online.com/catalog/datasheet/885012005049.pdf; Operating Temperature: -55 to +125degC; Packaging: Tape and Reel; Published Date: April 2021; Ceramic Type: NP0; Dissipation Factor max.: -; Height: 0.5mm; Mounting Technology: SMT; Size: 0402; Capacitance: 1pF
footprint WCAP-CSGP_0402_H=0.5mm
pins: 1, 2

## 885012005050
designator C?, comment 1.5pF, 50V
WCAP-CSGP Multilayer Ceramic Chip Capacitor, General Purpose, size 0402, NP0, 1.5pF, 50V; Manufacturer Part Number: 885012005050; Manufacturer: Wurth Elektronik; Rated Voltage: 50VDC; Isolation Resistance  min.: 10GOhm; Capacitance Tolerance: +/-0.5pF; Technical Reference: NP004021R5D050DFCT10000; Q-Factor min.: 400+20C; ComponentLink1Description: Manufacturer; ComponentLink1URL: http://www.we-online.de; ComponentLink2Description: Datasheet; ComponentLink2URL: https://www.we-online.com/catalog/datasheet/885012005050.pdf; Operating Temperature: -55 to +125degC; Packaging: Tape and Reel; Published Date: April 2021; Ceramic Type: NP0; Dissipation Factor max.: -; Height: 0.5mm; Mounting Technology: SMT; Size: 0402; Capacitance: 1.5pF
footprint WCAP-CSGP_0402_H=0.5mm
pins: 1, 2

## 885012005051
designator C?, comment 2.2pF, 50V
WCAP-CSGP Multilayer Ceramic Chip Capacitor, General Purpose, size 0402, NP0, 2.2pF, 50V; Manufacturer Part Number: 885012005051; Manufacturer: Wurth Elektronik; Rated Voltage: 50VDC; Isolation Resistance  min.: 10GOhm; Capacitance Tolerance: +/-0.5pF; Technical Reference: NP004022R2D050DFCT10000; Q-Factor min.: 400+20C; ComponentLink1Description: Manufacturer; ComponentLink1URL: http://www.we-online.de; ComponentLink2Description: Datasheet; ComponentLink2URL: https://www.we-online.com/catalog/datasheet/885012005051.pdf; Operating Temperature: -55 to +125degC; Packaging: Tape and Reel; Published Date: April 2021; Ceramic Type: NP0; Dissipation Factor max.: -; Height: 0.5mm; Mounting Technology: SMT; Size: 0402; Capacitance: 2.2pF
footprint WCAP-CSGP_0402_H=0.5mm
pins: 1, 2

## 885012005052
designator C?, comment 3.3pF, 50V
WCAP-CSGP Multilayer Ceramic Chip Capacitor, General Purpose, size 0402, NP0, 3.3pF, 50V; Manufacturer Part Number: 885012005052; Manufacturer: Wurth Elektronik; Rated Voltage: 50VDC; Isolation Resistance  min.: 10GOhm; Capacitance Tolerance: +/-0.5pF; Technical Reference: NP004023R3D050DFCT10000; Q-Factor min.: 400+20C; ComponentLink1Description: Manufacturer; ComponentLink1URL: http://www.we-online.de; ComponentLink2Description: Datasheet; ComponentLink2URL: https://www.we-online.com/catalog/datasheet/885012005052.pdf; Operating Temperature: -55 to +125degC; Packaging: Tape and Reel; Published Date: April 2021; Ceramic Type: NP0; Dissipation Factor max.: -; Height: 0.5mm; Mounting Technology: SMT; Size: 0402; Capacitance: 3.3pF
footprint WCAP-CSGP_0402_H=0.5mm
pins: 1, 2

## 885012005053
designator C?, comment 4.7pF, 50V
WCAP-CSGP Multilayer Ceramic Chip Capacitor, General Purpose, size 0402, NP0, 4.7pF, 50V; Manufacturer Part Number: 885012005053; Manufacturer: Wurth Elektronik; Rated Voltage: 50VDC; Isolation Resistance  min.: 10GOhm; Capacitance Tolerance: +/-0.5pF; Technical Reference: NP004024R7D050DFCT10000; Q-Factor min.: 400+20C; ComponentLink1Description: Manufacturer; ComponentLink1URL: http://www.we-online.de; ComponentLink2Description: Datasheet; ComponentLink2URL: https://www.we-online.com/catalog/datasheet/885012005053.pdf; Operating Temperature: -55 to +125degC; Packaging: Tape and Reel; Published Date: April 2021; Ceramic Type: NP0; Dissipation Factor max.: -; Height: 0.5mm; Mounting Technology: SMT; Size: 0402; Capacitance: 4.7pF
footprint WCAP-CSGP_0402_H=0.5mm
pins: 1, 2

## 885012005054
designator C?, comment 6.8pF, 50V
WCAP-CSGP Multilayer Ceramic Chip Capacitor, General Purpose, size 0402, NP0, 6.8pF, 50V; Manufacturer Part Number: 885012005054; Manufacturer: Wurth Elektronik; Rated Voltage: 50VDC; Isolation Resistance  min.: 10GOhm; Capacitance Tolerance: +/-0.5pF; Technical Reference: NP004026R8D050DFCT10000; Q-Factor min.: 400+20C; ComponentLink1Description: Manufacturer; ComponentLink1URL: http://www.we-online.de; ComponentLink2Description: Datasheet; ComponentLink2URL: https://www.we-online.com/catalog/datasheet/885012005054.pdf; Operating Temperature: -55 to +125degC; Packaging: Tape and Reel; Published Date: April 2021; Ceramic Type: NP0; Dissipation Factor max.: -; Height: 0.5mm; Mounting Technology: SMT; Size: 0402; Capacitance: 6.8pF
footprint WCAP-CSGP_0402_H=0.5mm
pins: 1, 2

## 885012005055
designator C?, comment 10pF, 50V
WCAP-CSGP Multilayer Ceramic Chip Capacitor, General Purpose, size 0402, NP0, 10pF, 50V; Manufacturer Part Number: 885012005055; Manufacturer: Wurth Elektronik; Rated Voltage: 50VDC; Isolation Resistance  min.: 10GOhm; Capacitance Tolerance: +/-5%; Technical Reference: NP00402100J050DFCT10000; Q-Factor min.: 400+20C; ComponentLink1Description: Manufacturer; ComponentLink1URL: http://www.we-online.de; ComponentLink2Description: Datasheet; ComponentLink2URL: https://www.we-online.com/catalog/datasheet/885012005055.pdf; Operating Temperature: -55 to +125degC; Packaging: Tape and Reel; Published Date: April 2021; Ceramic Type: NP0; Dissipation Factor max.: -; Height: 0.5mm; Mounting Technology: SMT; Size: 0402; Capacitance: 10pF
footprint WCAP-CSGP_0402_H=0.5mm
pins: 1, 2

## 885012005056
designator C?, comment 15pF, 50V
WCAP-CSGP Multilayer Ceramic Chip Capacitor, General Purpose, size 0402, NP0, 15pF, 50V; Manufacturer Part Number: 885012005056; Manufacturer: Wurth Elektronik; Rated Voltage: 50VDC; Isolation Resistance  min.: 10GOhm; Capacitance Tolerance: +/-5%; Technical Reference: NP00402150J050DFCT10000; Q-Factor min.: 400+20C; ComponentLink1Description: Manufacturer; ComponentLink1URL: http://www.we-online.de; ComponentLink2Description: Datasheet; ComponentLink2URL: https://www.we-online.com/catalog/datasheet/885012005056.pdf; Operating Temperature: -55 to +125degC; Packaging: Tape and Reel; Published Date: April 2021; Ceramic Type: NP0; Dissipation Factor max.: -; Height: 0.5mm; Mounting Technology: SMT; Size: 0402; Capacitance: 15pF
footprint WCAP-CSGP_0402_H=0.5mm
pins: 1, 2

## 885012005057
designator C?, comment 22pF, 50V
WCAP-CSGP Multilayer Ceramic Chip Capacitor, General Purpose, size 0402, NP0, 22pF, 50V; Manufacturer Part Number: 885012005057; Manufacturer: Wurth Elektronik; Rated Voltage: 50VDC; Isolation Resistance  min.: 10GOhm; Capacitance Tolerance: +/-5%; Technical Reference: NP00402220J050DFCT10000; Q-Factor min.: 400+20C; ComponentLink1Description: Manufacturer; ComponentLink1URL: http://www.we-online.de; ComponentLink2Description: Datasheet; ComponentLink2URL: https://www.we-online.com/catalog/datasheet/885012005057.pdf; Operating Temperature: -55 to +125degC; Packaging: Tape and Reel; Published Date: April 2021; Ceramic Type: NP0; Dissipation Factor max.: -; Height: 0.5mm; Mounting Technology: SMT; Size: 0402; Capacitance: 22pF
footprint WCAP-CSGP_0402_H=0.5mm
pins: 1, 2

## 885012005058
designator C?, comment 33pF, 50V
WCAP-CSGP Multilayer Ceramic Chip Capacitor, General Purpose, size 0402, NP0, 33pF, 50V; Manufacturer Part Number: 885012005058; Manufacturer: Wurth Elektronik; Rated Voltage: 50VDC; Isolation Resistance  min.: 10GOhm; Capacitance Tolerance: +/-5%; Technical Reference: NP00402330J050DFCT10000; Q-Factor min.: 1000; ComponentLink1Description: Manufacturer; ComponentLink1URL: http://www.we-online.de; ComponentLink2Description: Datasheet; ComponentLink2URL: https://www.we-online.com/catalog/datasheet/885012005058.pdf; Operating Temperature: -55 to +125degC; Packaging: Tape and Reel; Published Date: April 2021; Ceramic Type: NP0; Dissipation Factor max.: -; Height: 0.5mm; Mounting Technology: SMT; Size: 0402; Capacitance: 33pF
footprint WCAP-CSGP_0402_H=0.5mm
pins: 1, 2

## 885012005059
designator C?, comment 47pF, 50V
WCAP-CSGP Multilayer Ceramic Chip Capacitor, General Purpose, size 0402, NP0, 47pF, 50V; Manufacturer Part Number: 885012005059; Manufacturer: Wurth Elektronik; Rated Voltage: 50VDC; Isolation Resistance  min.: 10GOhm; Capacitance Tolerance: +/-5%; Technical Reference: NP00402470J050DFCT10000; Q-Factor min.: 1000; ComponentLink1Description: Manufacturer; ComponentLink1URL: http://www.we-online.de; ComponentLink2Description: Datasheet; ComponentLink2URL: https://www.we-online.com/catalog/datasheet/885012005059.pdf; Operating Temperature: -55 to +125degC; Packaging: Tape and Reel; Published Date: April 2021; Ceramic Type: NP0; Dissipation Factor max.: -; Height: 0.5mm; Mounting Technology: SMT; Size: 0402; Capacitance: 47pF
footprint WCAP-CSGP_0402_H=0.5mm
pins: 1, 2